# Altium footprint library NTC.PcbLib: 1 footprints
Each footprint in its own frame and in the unit in brackets; x right, y up, seen from the top. Pads: shape width x height; smd on the part's side, far side on the other; paste and mask are expansions set on the pad; w line width, h text height; cw(c..) or ccw(c..) is an arc to the next point about the centre after c.
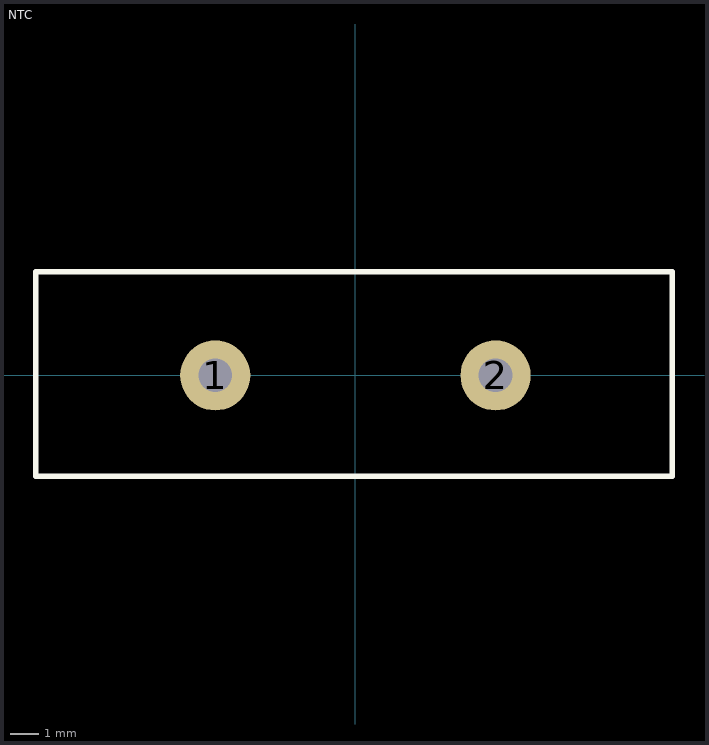
[diagram p0: the footprint, top view; thin cyan lines are the x and y axes]

## NTC [mm]
height 0.55
pads (2):
  round 2.5 hole 1.2: 1(-5,0) 2(5,0)
Top Overlay:
  lines w0.2: -11.4,-3.6 -11.4,3.7 11.3,3.7 11.3,-3.6 -11.4,-3.6
Top Assembly:
  lines w0.1: -11.4,-3.6 -11.4,3.7 11.3,3.7 11.3,-3.6 -11.4,-3.6
  text "'.Designator'" at 0,0 h0.7
3D body "Термистор 1.3D-20.STEP": height 26.24, standoff -2.25, extent -11.25,-3.5 11.25,3.5